# Altium footprint library 8-215079-4.PcbLib: 1 footprints
Each footprint in its own frame and in the unit in brackets; x right, y up, seen from the top. Pads: shape width x height; smd on the part's side, far side on the other; paste and mask are expansions set on the pad; w line width, h text height; cw(c..) or ccw(c..) is an arc to the next point about the centre after c.
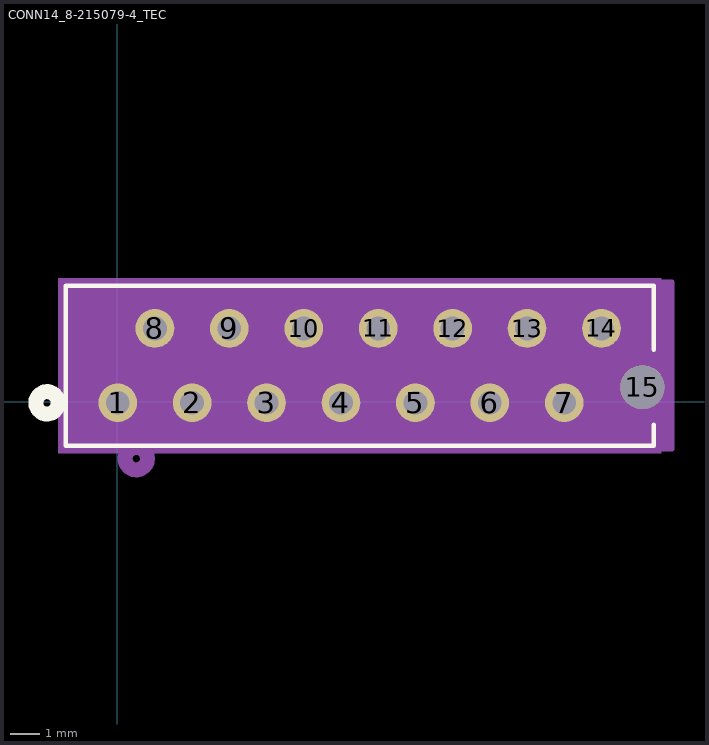
[diagram p0: the footprint, top view; thin cyan lines are the x and y axes]

## CONN14_8-215079-4_TEC [mil]
pads (15):
  round 52 hole 32 mask+0: 1(0.5,-1.76) 2(100.5,-1.76) 3(200.5,-1.76) 4(300.5,-1.76) 5(400.5,-1.76) 6(500.5,-1.76) 7(600.5,-1.76) 8(50.5,98.24) 9(150.5,98.24) 10(250.5,98.24) 11(350.5,98.24) 12(450.5,98.24) 13(550.5,98.24) 14(650.5,98.24)
  round 59 hole 59 unplated: 15(705.5,19.24)
Top Overlay:
  circle w20: c-94.5,-1.76 r15
  lines w6: 720.5,-31.18 720.5,-59.26 -69.5,-59.26 -69.5,155.74 720.5,155.74 720.5,69.65
Bottom Overlay:
  circle w20: c-94.5,-1.76 r15
Mechanical 5:
  region: -79.5,165.74 730.5,165.74 730.5,-69.26 -79.5,-69.26
Mechanical 13:
  circle w20: c25.5,-76.76 r15
  lines w1: -64.5,-54.26 715.5,-54.26 715.5,150.74 -64.5,150.74 -64.5,-54.26
Mechanical 15:
  region: 745.5,160.74 -74.5,160.74 -74.5,-64.26 745.5,-64.26
  region: 715.5,150.74 -64.5,150.74 -64.5,-54.26 715.5,-54.26
  lines w6: -74.5,-64.26 -74.5,160.74 745.5,160.74 745.5,-64.26 -74.5,-64.26
3D body: height 10, standoff 0, extent 0,0 10,10